# EAGLE library part HY28B (library pecs)
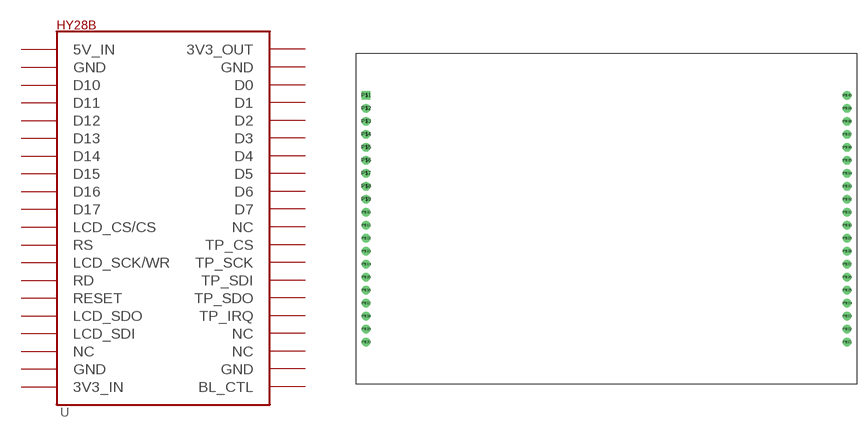
[diagram p10: symbol with the pads of SCREEN; footprint SCREEN]

Designator prefix U

## HY28B  [SCREEN]
P$1  5V_IN
P$2  GND
P$3  D10
P$4  D11
P$5  D12
P$6  D13
P$7  D14
P$8  D15
P$9  D16
P$10  D17
P$11  LCD_CS/CS
P$12  RS
P$13  LCD_SCK/WR
P$14  RD
P$15  RESET
P$16  LCD_SDO
P$17  LCD_SDI
P$18  NC
P$19  GND
P$20  3V3_IN
P$21  BL_CTL
P$22  GND
P$23  NC
P$24  NC
P$25  TP_IRQ
P$26  TP_SDO
P$27  TP_SDI
P$28  TP_SCK
P$29  TP_CS
P$30  NC
P$31  D7
P$32  D6
P$33  D5
P$34  D4
P$35  D3
P$36  D2
P$37  D1
P$38  D0
P$39  GND
P$40  3V3_OUT

## Footprint SCREEN (pad centres in mm)
drill 0.8 square: P$1 0,0
drill 0.8: P$2 0,-2; P$3 0,-4; P$4 0,-6; P$5 0,-8; P$6 0,-10; P$7 0,-12; P$8 0,-14; P$9 0,-16; P$10 0,-18; P$11 0,-20; P$12 0,-22; P$13 0,-24; P$14 0,-26; P$15 0,-28; P$16 0,-30; P$17 0,-32; P$18 0,-34; P$19 0,-36; P$20 0,-38; P$21 74,-38; P$22 74,-36; P$23 74,-34; P$24 74,-32; P$25 74,-30; P$26 74,-28; P$27 74,-26; P$28 74,-24; P$29 74,-22; P$30 74,-20; P$31 74,-18; P$32 74,-16; P$33 74,-14; P$34 74,-12; P$35 74,-10; P$36 74,-8; P$37 74,-6; P$38 74,-4; P$39 74,-2; P$40 74,0